# Altium footprint library EMG-Interface_AD623.PcbLib: 8 footprints
Each footprint in its own frame and in the unit in brackets; x right, y up, seen from the top. Pads: shape width x height; smd on the part's side, far side on the other; paste and mask are expansions set on the pad; w line width, h text height; cw(c..) or ccw(c..) is an arc to the next point about the centre after c.
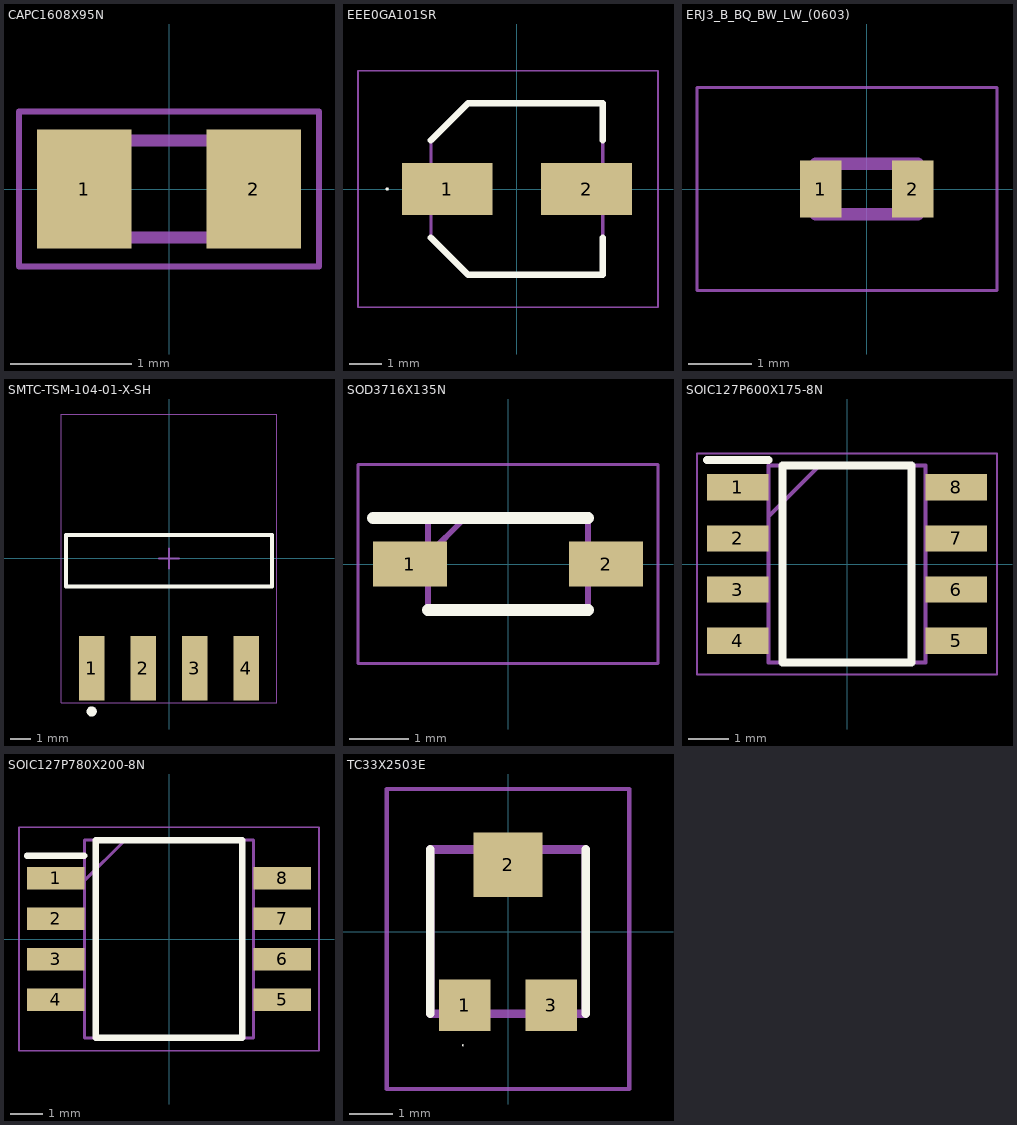
[diagram p0: the footprints below, top view; thin cyan lines are the x and y axes]

## CAPC1608X95N [mm]
pads (2):
  rect 0.78x0.98 smd: 1(-0.7,0) 2(0.7,0)
Mechanical 13:
  lines w0.1: -0.8,-0.4 0.8,-0.4 0.8,0.4 -0.8,0.4 -0.8,-0.4
Mechanical 15:
  lines w0.05: -1.24,-0.64 1.24,-0.64 1.24,0.64 -1.24,0.64 -1.24,-0.64
3D body "C0603C104K4RACTU.stp": height 0.95, standoff 0, extent -0.8,-0.4 0.8,0.4

## EEE0GA101SR [mm]
pads (2):
  rect 2.8x1.6 smd: 1(-2.15,0) 2(2.15,0)
Top Overlay:
  lines w0.05: -4.025,0 ccw(c-4,0) -3.975,0 ccw(c-4,0) -4.025,0
  lines w0.2: -2.65,-1.5 -1.5,-2.65 2.65,-2.65 2.65,-1.5 ; -2.65,1.5 -1.5,2.65 2.65,2.65 2.65,1.5
Mechanical 13:
  lines w0.1: -2.65,1.5 -1.5,2.65 ; -2.65,1.5 -2.65,-1.5 -1.5,-2.65 2.65,-2.65 2.65,2.65 -1.5,2.65 ; -2.65,1.5 -1.5,2.65
Mechanical 15:
  lines w0.05: -4.9,-3.65 4.35,-3.65 4.35,3.65 -4.9,3.65 -4.9,-3.65
3D body "EEE-1VA100SR.stp": height 0, standoff 0, extent 0,0 0,0

## ERJ3_B_BQ_BW_LW_(0603) [mm]
pads (2):
  rect 0.65x0.9 smd: 1(-0.725,0) 2(0.725,0)
Mechanical 13:
  lines w0.2: -0.8,-0.4 -0.8,0.4 0.8,0.4 0.8,-0.4 -0.8,-0.4
Mechanical 15:
  lines w0.05: -2.675,-1.6 -2.675,1.6 2.05,1.6 2.05,-1.6 -2.675,-1.6
3D body "ERJ-3RQF1R0V.stp": height 0.55, standoff 0, extent -0.8,-0.4 0.8,0.4

## SMTC-TSM-104-01-X-SH [mm] "Terminal Strip Single Surface Mount, 1x4 Pins, Horizontal, 2.54mm Pitch, Male"
height 3.05
pads (4):
  rect 1.27x3.18 smd: 1(-3.81,-5.402) 2(-1.27,-5.402) 3(1.27,-5.402) 4(3.81,-5.402)
Top Overlay:
  circle w0.25: c-3.81,-7.542 r0.125
  lines w0.2: -5.08,-1.392 -5.08,1.148 5.08,1.148 5.08,-1.392 -5.08,-1.392
Mechanical 13:
  lines w0.1: -5.08,-1.392 -5.08,1.148 5.08,1.148 5.08,-1.392 -5.08,-1.392
Mechanical 15:
  lines w0.05: -5.305,-7.117 5.305,-7.117 5.305,7.117 -5.305,7.117 -5.305,-7.117
  lines w0.1: -0.5,0 0.5,0 ; 0,-0.5 0,0.5
3D body "TSM-104-01-X-SH.step": height 3.05, standoff 0, extent -5.08,-5.962 5.08,6.992

## SOD3716X135N [mm]
pads (2):
  rect 1.25x0.75 smd: 1(-1.65,0) 2(1.65,0)
Top Overlay:
  lines w0.2: -2.275,0.775 1.35,0.775 ; -1.35,-0.775 1.35,-0.775
Mechanical 13:
  lines w0.1: -1.35,0.15 -0.725,0.775 ; -1.35,-0.775 -1.35,0.775 1.35,0.775 1.35,-0.775 -1.35,-0.775
Mechanical 15:
  lines w0.05: -2.525,-1.675 -2.525,1.675 2.525,1.675 2.525,-1.675 -2.525,-1.675
3D body "BAT43W-E3-08.stp": height 1.35, standoff 0, extent -1.85,-0.775 1.85,0.775

## SOIC127P600X175-8N [mm]
pads (8):
  rect 1.525x0.65 smd: 1(-2.712,1.905) 2(-2.712,0.635) 3(-2.712,-0.635) 4(-2.712,-1.905) 5(2.712,-1.905) 6(2.712,-0.635) 7(2.712,0.635) 8(2.712,1.905)
Top Overlay:
  lines w0.2: -3.475,2.58 -1.95,2.58 ; -1.6,-2.45 -1.6,2.45 1.6,2.45 1.6,-2.45 -1.6,-2.45
Mechanical 13:
  lines w0.1: -1.95,1.18 -0.68,2.45 ; -1.95,-2.45 -1.95,2.45 1.95,2.45 1.95,-2.45 -1.95,-2.45
Mechanical 15:
  lines w0.05: -3.725,-2.75 -3.725,2.75 3.725,2.75 3.725,-2.75 -3.725,-2.75
3D body "NE555DR.stp": height 1.75, standoff 0, extent -3,-2.45 3,2.45

## SOIC127P780X200-8N [mm]
pads (8):
  rect 1.8x0.7 smd: 1(-3.55,1.905) 2(-3.55,0.635) 3(-3.55,-0.635) 4(-3.55,-1.905) 5(3.55,-1.905) 6(3.55,-0.635) 7(3.55,0.635) 8(3.55,1.905)
Top Overlay:
  lines w0.2: -4.45,2.605 -2.65,2.605 ; -2.3,-3.1 2.3,-3.1 2.3,3.1 -2.3,3.1 -2.3,-3.1
Mechanical 13:
  lines w0.1: -2.65,1.83 -1.38,3.1 ; -2.65,-3.1 2.65,-3.1 2.65,3.1 -2.65,3.1 -2.65,-3.1
Mechanical 15:
  lines w0.05: -4.7,-3.5 4.7,-3.5 4.7,3.5 -4.7,3.5 -4.7,-3.5
3D body "TLC272CPSR.stp": height 2, standoff 0, extent -3.9,-3.1 3.9,3.1

## TC33X2503E [mm]
pads (3):
  rect 1.2x1.2 smd: 1(-1,-1.7) 3(1,-1.7)
  rect 1.6x1.5 smd: 2(0,1.55)
Top Overlay:
  lines w0.022: -1.052,-2.625 ccw(c-1.041,-2.625) -1.03,-2.625 ccw(c-1.041,-2.625) -1.052,-2.625
  lines w0.2: -1.8,-1.9 -1.8,1.9 ; 1.8,-1.9 1.8,1.9
Mechanical 13:
  lines w0.2: -1.8,-1.9 1.8,-1.9 1.8,1.9 -1.8,1.9 -1.8,-1.9
Mechanical 15:
  lines w0.1: -2.8,-3.636 2.8,-3.636 2.8,3.3 -2.8,3.3 -2.8,-3.636
3D body "TC33X-2-101E.stp": height 1.22, standoff 0, extent -1.5,-2 1.5,1.8